# EAGLE library part DIP06SB (library 0SWITCH_DIL)
DIL/CODE SWITCH
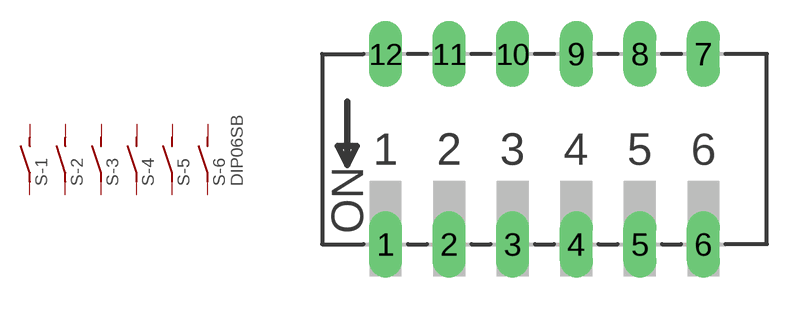
[diagram p45: symbol with the pads of DIP06SB; footprint DIP06SB]

Designator prefix S; gates -1=S -2=S -3=S -4=S -5=S -6=S+V

## DIP06SB  [DIP06SB]
1  -1:1  pas
2  -2:1  pas
3  -3:1  pas
4  -4:1  pas
5  -5:1  pas
6  -6:1  pas
7  -6:2  pas
8  -5:2  pas
9  -4:2  pas
10  -3:2  pas
11  -2:2  pas
12  -1:2  pas

## Footprint DIP06SB (pad centres in mm)
DIL/CODE SWITCH
drill 0.813 long: 1 -6.35,-3.81; 2 -3.81,-3.81; 3 -1.27,-3.81; 4 1.27,-3.81; 5 3.81,-3.81; 6 6.35,-3.81; 7 6.35,3.81; 8 3.81,3.81; 9 1.27,3.81; 10 -1.27,3.81; 11 -3.81,3.81; 12 -6.35,3.81